# Altium footprint library Micro_PcbLib.PcbLib: 25 footprints (part 2 of 2)
Each footprint in its own frame and in the unit in brackets; x right, y up, seen from the top. Pads: shape width x height; smd on the part's side, far side on the other; paste and mask are expansions set on the pad; w line width, h text height; cw(c..) or ccw(c..) is an arc to the next point about the centre after c.
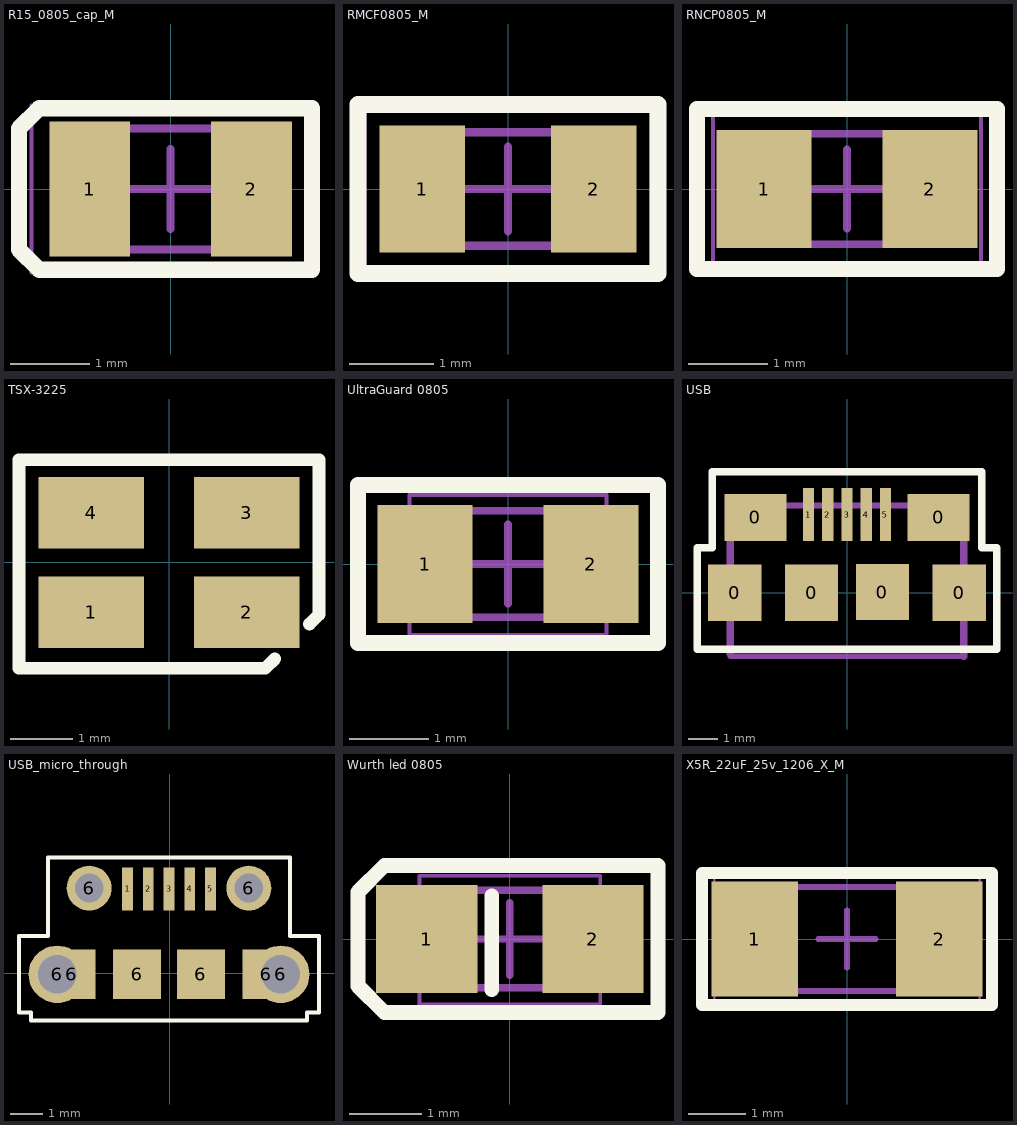
[diagram p1: the footprints below, top view; thin cyan lines are the x and y axes]

## R15_0805_cap_M [mil] "R15_cap_M"
height 59.84
pads (2):
  rect 40x66.93 smd: 1(-40,0) 2(40,0)
Top Overlay:
  lines w8: -75,-30 -75,30 -65,40 70,40 70,-40 -65,-40 -75,-30
Mechanical 13:
  lines w3.94: -44.88,-29.92 -44.88,29.92 44.88,29.92 44.88,-29.92 -44.88,-29.92
Mechanical 15:
  lines w1.97: -68.9,-41.34 -68.9,41.34 68.9,41.34 68.9,-41.34 -68.9,-41.34
  lines w3.94: -19.68,0 19.69,0 ; 0,-19.69 0,19.68
3D body: height 59.84, standoff 0, extent -24.8,-29.92 24.8,29.92
3D body: height 59.84, standoff 0, extent -44.88,-29.92 -24.8,29.92
3D body: height 59.84, standoff 0, extent 24.8,-29.92 44.88,29.92

## RMCF0805_M [mil] "RMCF0805_M"
height 25.59
pads (2):
  rect 40x59.06 smd: 1(-40,0) 2(40,0)
Top Overlay:
  lines w8: -70,-39.37 -70,39.37 70,39.37 70,-39.37 -70,-39.37
Mechanical 13:
  lines w3.94: -43.31,-26.57 43.31,-26.57 43.31,26.57 -43.31,26.57 -43.31,-26.57
Mechanical 15:
  lines w1.97: -66.93,-37.4 66.93,-37.4 66.93,37.4 -66.93,37.4 -66.93,-37.4
  lines w3.94: -19.68,0 19.69,0 ; 0,-19.68 0,19.68
3D body: height 25.59, standoff 0, extent 29.53,-26.57 43.31,26.57
3D body: height 25.59, standoff 0, extent -43.31,-26.57 -29.53,26.57
3D body: height 25.59, standoff 0, extent -29.53,-26.57 29.53,26.57

## RNCP0805_M [mm] "RNCP0805_M"
height 0.6
pads (2):
  rect 1.2x1.5 smd: 1(-1.05,0) 2(1.05,0)
Top Overlay:
  lines w0.203: -1.9,-1.016 -1.9,1.016 1.9,1.016 1.9,-1.016 -1.9,-1.016
Mechanical 13:
  lines w0.1: -1.075,-0.7 -1.075,0.7 1.075,0.7 1.075,-0.7 -1.075,-0.7
Mechanical 15:
  lines w0.05: -1.7,-0.95 -1.7,0.95 1.7,0.95 1.7,-0.95 -1.7,-0.95
  lines w0.1: -0.5,0 0.5,0 ; 0,-0.5 0,0.5
3D body: height 0.6, standoff 0, extent -0.475,-0.7 0.475,0.7
3D body: height 0.6, standoff 0, extent -1.075,-0.7 -0.475,0.7
3D body: height 0.6, standoff 0, extent 0.475,-0.7 1.075,0.7

## TSX-3225 [mm] "SER4069CT"
pads (4):
  rect 1.7x1.15 smd: 1(-1.25,-0.8) 2(1.25,-0.8) 3(1.25,0.8) 4(-1.25,0.8)
Top Overlay:
  lines w0.203: 1.701,-1.549 1.55,-1.7 -2.413,-1.7 -2.413,-0.737 -2.413,1.651 2.413,1.651 2.413,-0.837 2.259,-0.991
3D body: height 0.6, standoff 0, extent -1.6,-1.25 1.6,1.25

## UltraGuard 0805 [mm] "UltraGuard 0805"
pads (2):
  rect 1.2x1.5 smd: 1(-1.05,0) 2(1.05,0)
Top Overlay:
  lines w0.203: -1.9,-1 1.9,-1 1.9,1 -1.9,1 -1.9,-1
Mechanical 13:
  lines w0.1: -1.05,-0.675 1.05,-0.675 1.05,0.675 -1.05,0.675 -1.05,-0.675
Mechanical 15:
  lines w0.05: -1.25,-0.9 1.25,-0.9 1.25,0.875 -1.25,0.875 -1.25,-0.9
  lines w0.1: -0.5,0 0.5,0 ; 0,-0.5 0,0.5
3D body: height 0.7, standoff 0, extent -1,-0.625 1,0.625

## USB [mm]
pads (11):
  rect 1.8x1.9 smd: 0(-3.8,0) 0(-1.2,0) 0(1.2,0.025) 0(3.8,0)
  rect 2.1x1.6 smd: 0(-3.1,2.55) 0(3.1,2.55)
  rect 0.381x1.8 smd: 1(-1.3,2.65) 2(-0.65,2.65) 3(0,2.65) 4(0.65,2.65) 5(1.3,2.65)
Top Overlay:
  lines w0.254: -5.08,-1.905 5.08,-1.905 5.08,1.524 4.572,1.524 4.572,4.1 -4.572,4.1 -4.572,1.524 -5.08,1.524 -5.08,-1.905
Mechanical 15:
  lines w0.2: -3.95,-2.15 3.95,-2.15 ; -3.95,2.95 3.95,2.95
  lines w0.254: -3.95,-2.061 -3.95,2.95 ; 3.95,-2.15 3.95,2.95
3D body: height 2.8, standoff 0, extent -3.4,-2.2 3.4,2.9

## USB_micro_through [mm]
pads (13):
  rect 0.33x1.35 smd: 1(-1.325,2.65) 2(-0.675,2.65) 3(-0.025,2.65) 4(0.625,2.65) 5(1.275,2.65)
  round 1.8 hole 1.2: 6(-3.525,-0.025) 6(3.475,-0.025)
  rect 1.5x1.55 smd: 6(-3.075,-0.025) 6(-1.025,-0.025) 6(0.975,-0.025) 6(3.025,-0.025)
  round 1.408 hole 0.9: 6(-2.525,2.675) 6(2.475,2.675)
Top Overlay:
  lines w0.127: -3.81,1.168 -4.724,1.168 -4.724,-1.219 -4.343,-1.219 -4.343,-1.473 4.293,-1.473 4.293,-1.219 4.674,-1.219 4.674,1.168 3.759,1.168 3.759,3.632 -3.81,3.632 -3.81,1.194
3D body "10118194c.stp": height 2.74, standoff -0.53, extent -4.037,-2.688 4.013,2.892

## Wurth led 0805 [mm] "Wurth led 0805"
pads (2):
  rect 1.4x1.5 smd: 1(-1.15,0) 2(1.15,0)
Top Overlay:
  lines w0.203: -0.25,-0.7 -0.25,0.6 ; -2.1,-0.65 -1.734,-1.016 2.05,-1.016 2.05,1.016 -1.734,1.016 -2.1,0.65 -2.1,-0.65
Mechanical 13:
  lines w0.1: -1.05,-0.675 1.05,-0.675 1.05,0.675 -1.05,0.675 -1.05,-0.675
Mechanical 15:
  lines w0.05: -1.25,-0.9 1.25,-0.9 1.25,0.875 -1.25,0.875 -1.25,-0.9
  lines w0.1: -0.5,0 0.5,0 ; 0,-0.5 0,0.5
3D body: height 0.3, standoff 0, extent 0.7,-0.625 1,0.625
3D body: height 0.3, standoff 0, extent -1,-0.625 -0.7,0.625
3D body: height 0.7, standoff 0, extent -0.7,-0.625 0.7,0.625

## X5R_22uF_25v_1206_X_M [mm] "X5R_22uF_25v_1206_X_M"
height 2.29
pads (2):
  rect 1.5x2 smd: 1(-1.6,0) 2(1.6,0)
Top Overlay:
  lines w0.203: -2.515,-1.143 2.515,-1.143 2.515,1.143 -2.515,1.143 -2.515,-1.143
Mechanical 13:
  lines w0.1: -1.7,-0.9 1.7,-0.9 1.7,0.9 -1.7,0.9 -1.7,-0.9
Mechanical 15:
  lines w0.05: -2.3,-1.15 2.3,-1.15 2.3,1.15 -2.3,1.15 -2.3,-1.15
  lines w0.1: -0.5,0 0.5,0 ; 0,-0.5 0,0.5
3D body: height 2.29, standoff 0, extent 1.2,-0.9 1.7,0.9
3D body: height 2.29, standoff 0, extent -1.7,-0.9 -1.2,0.9
3D body: height 2.29, standoff 0, extent -1.2,-0.9 1.2,0.9